# EAGLE library part INA2321 (library newchips)
TI(BB) microPower, Single-Supply, CMOS Instrumentation Amplifier
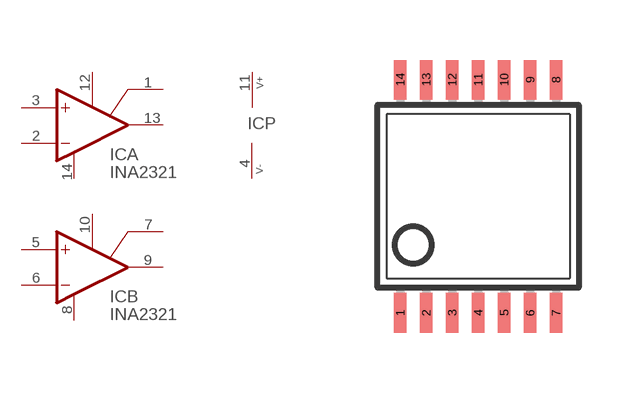
[diagram p24: symbol with the pads of TSSOP14; footprint TSSOP14]

Designator prefix IC; gates A=INA321 B=INA321 P=PWR_V+-

## INA2321  [TSSOP14]
1  A:RG  pas
2  A:-IN  in
3  A:+IN  in
4  P:V-  pwr
5  B:+IN  in
6  B:-IN  in
7  B:RG  pas
8  B:SHDN  pas
9  B:OUT  out
10  B:REF  in
11  P:V+  pwr
12  A:REF  in
13  A:OUT  out
14  A:SHDN  pas

## Footprint TSSOP14 (pad centres in mm)
smd 0.305 x 0.991: 1 -1.95,-2.918; 2 -1.3,-2.918; 3 -0.65,-2.918; 4 0,-2.918; 5 0.65,-2.918; 6 1.3,-2.918; 7 1.95,-2.918; 8 1.95,2.918; 9 1.3,2.918; 10 0.65,2.918; 11 0,2.918; 12 -0.65,2.918; 13 -1.3,2.918; 14 -1.95,2.918